# Altium footprint library 4-bit binary adder (74283).PcbLib: 1 footprints
Each footprint in its own frame and in the unit in brackets; x right, y up, seen from the top. Pads: shape width x height; smd on the part's side, far side on the other; paste and mask are expansions set on the pad; w line width, h text height; cw(c..) or ccw(c..) is an arc to the next point about the centre after c.
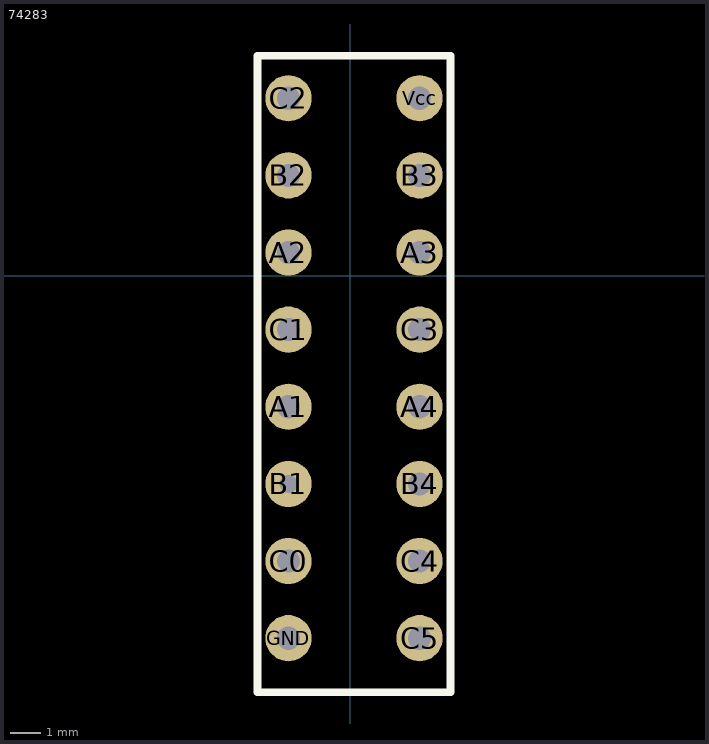
[diagram p0: the footprint, top view; thin cyan lines are the x and y axes]

## 74283 [mil]
pads (16):
  round 60 hole 30: A1(-80,-170) A2(-80,30) A3(90,30) A4(90,-170) B2(-80,130) B3(90,130) B4(90,-270) C0(-80,-370) C1(-80,-70) C2(-80,230) C3(90,-70) C4(90,-370) C5(90,-470) GND(-80,-470) Vcc(90,230)
  round 60 hole 23.62: B1(-80,-270)
Top Overlay:
  lines w10: -120,-540 -120,285 130,285 130,-540 -120,-540